# EAGLE library part LM3S811 (library RASEagleLib)
LM3S811 ARM Cortex M3 Microcontroller
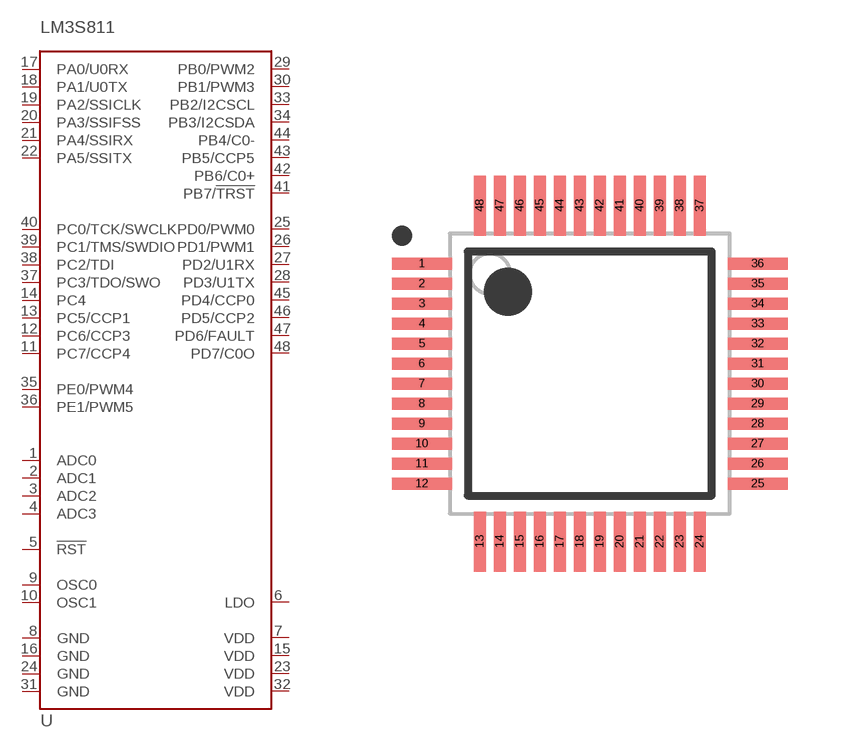
[diagram p0: symbol with the pads of QFP50P900X900X160-48N; footprint QFP50P900X900X160-48N]

Designator prefix U

## LM3S811  [QFP50P900X900X160-48N]
1  ADC0
2  ADC1
3  ADC2
4  ADC3
5  !RST!
6  LDO
7  VDD
8  GND
9  OSC0
10  OSC1
11  PC7/CCP4
12  PC6/CCP3
13  PC5/CCP1
14  PC4
15  VDD
16  GND
17  PA0/U0RX
18  PA1/U0TX
19  PA2/SSICLK
20  PA3/SSIFSS
21  PA4/SSIRX
22  PA5/SSITX
23  VDD
24  GND
25  PD0/PWM0
26  PD1/PWM1
27  PD2/U1RX
28  PD3/U1TX
29  PB0/PWM2
30  PB1/PWM3
31  GND
32  VDD
33  PB2/I2CSCL
34  PB3/I2CSDA
35  PE0/PWM4
36  PE1/PWM5
37  PC3/TDO/SWO
38  PC2/TDI
39  PC1/TMS/SWDIO
40  PC0/TCK/SWCLK
41  PB7/!TRST!
42  PB6/C0+
43  PB5/CCP5
44  PB4/C0-
45  PD4/CCP0
46  PD5/CCP2
47  PD6/FAULT
48  PD7/C0O

## Footprint QFP50P900X900X160-48N (pad centres in mm)
PCB Libraries Package
smd 1.5 x 0.3: 1 -4.2,2.75; 2 -4.2,2.25; 3 -4.2,1.75; 4 -4.2,1.25; 5 -4.2,0.75; 6 -4.2,0.25; 7 -4.2,-0.25; 8 -4.2,-0.75; 9 -4.2,-1.25; 10 -4.2,-1.75; 11 -4.2,-2.25; 12 -4.2,-2.75; 25 4.2,-2.75; 26 4.2,-2.25; 27 4.2,-1.75; 28 4.2,-1.25; 29 4.2,-0.75; 30 4.2,-0.25; 31 4.2,0.25; 32 4.2,0.75; 33 4.2,1.25; 34 4.2,1.75; 35 4.2,2.25; 36 4.2,2.75
smd 0.3 x 1.5: 13 -2.75,-4.2; 14 -2.25,-4.2; 15 -1.75,-4.2; 16 -1.25,-4.2; 17 -0.75,-4.2; 18 -0.25,-4.2; 19 0.25,-4.2; 20 0.75,-4.2; 21 1.25,-4.2; 22 1.75,-4.2; 23 2.25,-4.2; 24 2.75,-4.2; 37 2.75,4.2; 38 2.25,4.2; 39 1.75,4.2; 40 1.25,4.2; 41 0.75,4.2; 42 0.25,4.2; 43 -0.25,4.2; 44 -0.75,4.2; 45 -1.25,4.2; 46 -1.75,4.2; 47 -2.25,4.2; 48 -2.75,4.2